# Altium schematic symbol library 5V_to_3.3V_regulator_module.SchLib: 1 symbol
Pins are listed as number, name and electrical type; pins without a type are passive.

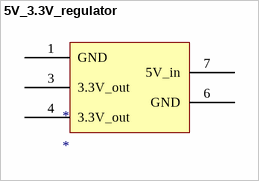
[diagram p0: symbol 5V_3.3V_regulator]

## 5V_3.3V_regulator
designator *
footprint 5V_to_3.3_regulator_module
pins: 1 GND, 3 3.3V_out, 4 3.3V_out, 6 GND, 7 5V_in